# EAGLE library part WAVESHARE_1.5IN_RGB_OLED (library SynthyComponents v13)
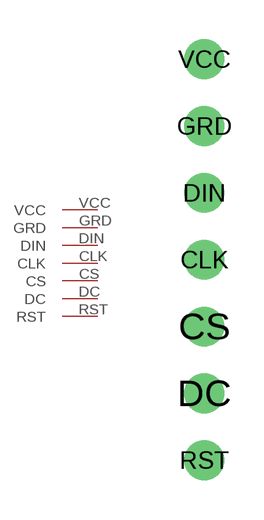
[diagram p2: symbol with the pads of SCREEN_FOOTPRINT; footprint SCREEN_FOOTPRINT]

Designator prefix -

## WAVESHARE_1.5IN_RGB_OLED  [SCREEN_FOOTPRINT]
CLK  CLK
CS  CS
DC  DC
DIN  DIN
GRD  GRD
RST  RST
VCC  VCC

## Footprint SCREEN_FOOTPRINT (pad centres in mm)
drill 1: CLK 0,0; CS 0,-2.54; DC 0,-5.08; DIN 0,2.54; GRD 0,5.08; RST 0,-7.62; VCC 0,7.62